# EAGLE library part ASM4242 (library ASM4242_Eagle_R01)
DISCLAIMER: THE DESIGN HASN'T BEEN VERIFIED, JUST FOR YOUR REFERENCE. EVERYTHING IS PROVIDED AS IS, WITHOUT WARRANTY OF ANY KIND, NOT RESPONSIBLE FOR THE QUALITY. If you find any issues with this file, please create an issue in the repo projects.kolabo.dev/
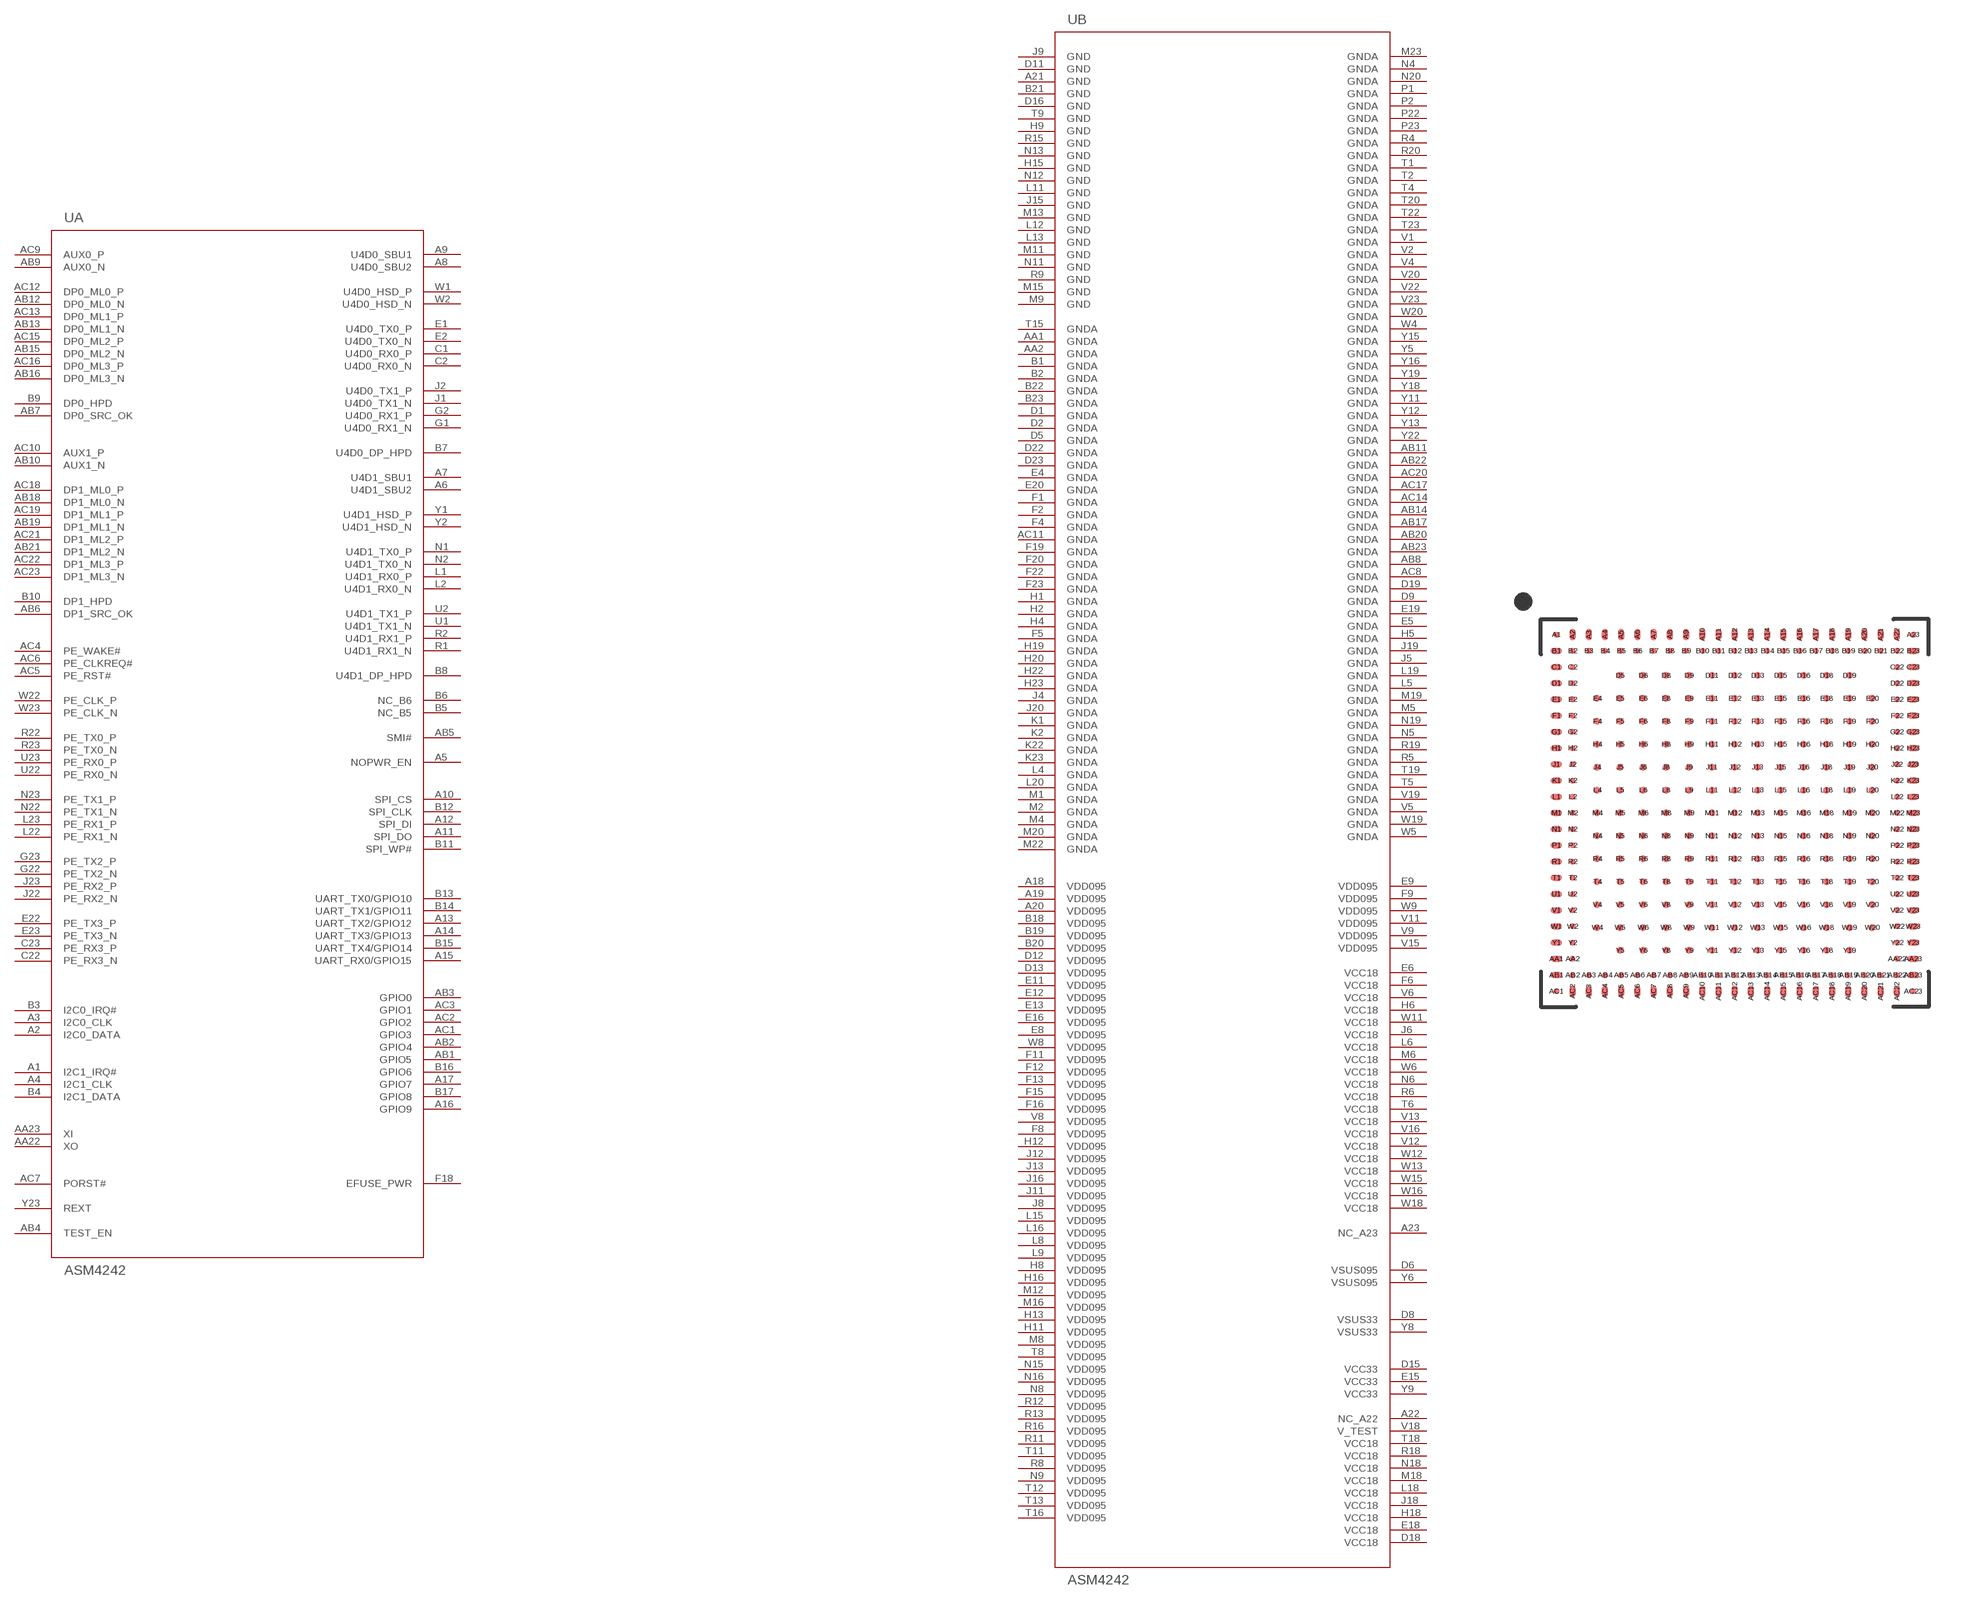
[diagram p0: symbol with the pads of ASM4242; footprint ASM4242]

Designator prefix -; gates A=ASM4242_A B=ASM4242_B

## ASM4242  [ASM4242]
A1  A:I2C1_IRQ#
A2  A:I2C0_DATA
A3  A:I2C0_CLK
A4  A:I2C1_CLK
A5  A:NOPWR_EN
A6  A:U4D1_SBU2
A7  A:U4D1_SBU1
A8  A:U4D0_SBU2
A9  A:U4D0_SBU1
A10  A:SPI_CS
A11  A:SPI_DO
A12  A:SPI_DI
A13  A:UART_TX2/GPIO12
A14  A:UART_TX3/GPIO13
A15  A:UART_RX0/GPIO15
A16  A:GPIO9
A17  A:GPIO7
A18  B:VDD095
A19  B:VDD095
A20  B:VDD095
A21  B:GND
A22  B:NC_A22
A23  B:NC_A23
AA1  B:GNDA
AA2  B:GNDA
AA22  A:XO
AA23  A:XI
AB1  A:GPIO5
AB2  A:GPIO4
AB3  A:GPIO0
AB4  A:TEST_EN
AB5  A:SMI#
AB6  A:DP1_SRC_OK
AB7  A:DP0_SRC_OK
AB8  B:GNDA
AB9  A:AUX0_N
AB10  A:AUX1_N
AB11  B:GNDA
AB12  A:DP0_ML0_N
AB13  A:DP0_ML1_N
AB14  B:GNDA
AB15  A:DP0_ML2_N
AB16  A:DP0_ML3_N
AB17  B:GNDA
AB18  A:DP1_ML0_N
AB19  A:DP1_ML1_N
AB20  B:GNDA
AB21  A:DP1_ML2_N
AB22  B:GNDA
AB23  B:GNDA
AC1  A:GPIO3
AC2  A:GPIO2
AC3  A:GPIO1
AC4  A:PE_WAKE#
AC5  A:PE_RST#
AC6  A:PE_CLKREQ#
AC7  A:PORST#
AC8  B:GNDA
AC9  A:AUX0_P
AC10  A:AUX1_P
AC11  B:GNDA
AC12  A:DP0_ML0_P
AC13  A:DP0_ML1_P
AC14  B:GNDA
AC15  A:DP0_ML2_P
AC16  A:DP0_ML3_P
AC17  B:GNDA
AC18  A:DP1_ML0_P
AC19  A:DP1_ML1_P
AC20  B:GNDA
AC21  A:DP1_ML2_P
AC22  A:DP1_ML3_P
AC23  A:DP1_ML3_N
B1  B:GNDA
B2  B:GNDA
B3  A:I2C0_IRQ#
B4  A:I2C1_DATA
B5  A:NC_B5
B6  A:NC_B6
B7  A:U4D0_DP_HPD
B8  A:U4D1_DP_HPD
B9  A:DP0_HPD
B10  A:DP1_HPD
B11  A:SPI_WP#
B12  A:SPI_CLK
B13  A:UART_TX0/GPIO10
B14  A:UART_TX1/GPIO11
B15  A:UART_TX4/GPIO14
B16  A:GPIO6
B17  A:GPIO8
B18  B:VDD095
B19  B:VDD095
B20  B:VDD095
B21  B:GND
B22  B:GNDA
B23  B:GNDA
C1  A:U4D0_RX0_P
C2  A:U4D0_RX0_N
C22  A:PE_RX3_N
C23  A:PE_RX3_P
D1  B:GNDA
D2  B:GNDA
D5  B:GNDA
D6  B:VSUS095
D8  B:VSUS33
D9  B:GNDA
D11  B:GND
D12  B:VDD095
D13  B:VDD095
D15  B:VCC33
D16  B:GND
D18  B:VCC18
D19  B:GNDA
D22  B:GNDA
D23  B:GNDA
E1  A:U4D0_TX0_P
E2  A:U4D0_TX0_N
E4  B:GNDA
E5  B:GNDA
E6  B:VCC18
E8  B:VDD095
E9  B:VDD095
E11  B:VDD095
E12  B:VDD095
E13  B:VDD095
E15  B:VCC33
E16  B:VDD095
E18  B:VCC18
E19  B:GNDA
E20  B:GNDA
E22  A:PE_TX3_P
E23  A:PE_TX3_N
F1  B:GNDA
F2  B:GNDA
F4  B:GNDA
F5  B:GNDA
F6  B:VCC18
F8  B:VDD095
F9  B:VDD095
F11  B:VDD095
F12  B:VDD095
F13  B:VDD095
F15  B:VDD095
F16  B:VDD095
F18  A:EFUSE_PWR
F19  B:GNDA
F20  B:GNDA
F22  B:GNDA
F23  B:GNDA
G1  A:U4D0_RX1_N
G2  A:U4D0_RX1_P
G22  A:PE_TX2_N
G23  A:PE_TX2_P
H1  B:GNDA
H2  B:GNDA
H4  B:GNDA
H5  B:GNDA
H6  B:VCC18
H8  B:VDD095
H9  B:GND
H11  B:VDD095
H12  B:VDD095
H13  B:VDD095
H15  B:GND
H16  B:VDD095
H18  B:VCC18
H19  B:GNDA
H20  B:GNDA
H22  B:GNDA
H23  B:GNDA
J1  A:U4D0_TX1_N
J2  A:U4D0_TX1_P
J4  B:GNDA
J5  B:GNDA
J6  B:VCC18
J8  B:VDD095
J9  B:GND
J11  B:VDD095
J12  B:VDD095
J13  B:VDD095
J15  B:GND
J16  B:VDD095
J18  B:VCC18
J19  B:GNDA
J20  B:GNDA
J22  A:PE_RX2_N
J23  A:PE_RX2_P
K1  B:GNDA
K2  B:GNDA
K22  B:GNDA
K23  B:GNDA
L1  A:U4D1_RX0_P
L2  A:U4D1_RX0_N
L4  B:GNDA
L5  B:GNDA
L6  B:VCC18
L8  B:VDD095
L9  B:VDD095
L11  B:GND
L12  B:GND
L13  B:GND
L15  B:VDD095
L16  B:VDD095
L18  B:VCC18
L19  B:GNDA
L20  B:GNDA
L22  A:PE_RX1_N
L23  A:PE_RX1_P
M1  B:GNDA
M2  B:GNDA
M4  B:GNDA
M5  B:GNDA
M6  B:VCC18
M8  B:VDD095
M9  B:GND
M11  B:GND
M12  B:VDD095
M13  B:GND
M15  B:GND
M16  B:VDD095
M18  B:VCC18
M19  B:GNDA
M20  B:GNDA
M22  B:GNDA
M23  B:GNDA
N1  A:U4D1_TX0_P
N2  A:U4D1_TX0_N
N4  B:GNDA
N5  B:GNDA
N6  B:VCC18
N8  B:VDD095
N9  B:VDD095
N11  B:GND
N12  B:GND
N13  B:GND
N15  B:VDD095
N16  B:VDD095
N18  B:VCC18
N19  B:GNDA
N20  B:GNDA
N22  A:PE_TX1_N
N23  A:PE_TX1_P
P1  B:GNDA
P2  B:GNDA
P22  B:GNDA
P23  B:GNDA
R1  A:U4D1_RX1_N
R2  A:U4D1_RX1_P
R4  B:GNDA
R5  B:GNDA
R6  B:VCC18
R8  B:VDD095
R9  B:GND
R11  B:VDD095
R12  B:VDD095
R13  B:VDD095
R15  B:GND
R16  B:VDD095
R18  B:VCC18
R19  B:GNDA
R20  B:GNDA
R22  A:PE_TX0_P
R23  A:PE_TX0_N
T1  B:GNDA
T2  B:GNDA
T4  B:GNDA
T5  B:GNDA
T6  B:VCC18
T8  B:VDD095
T9  B:GND
T11  B:VDD095
T12  B:VDD095
T13  B:VDD095
T15  B:GNDA
T16  B:VDD095
T18  B:VCC18
T19  B:GNDA
T20  B:GNDA
T22  B:GNDA
T23  B:GNDA
U1  A:U4D1_TX1_N
U2  A:U4D1_TX1_P
U22  A:PE_RX0_N
U23  A:PE_RX0_P
V1  B:GNDA
V2  B:GNDA
V4  B:GNDA
V5  B:GNDA
V6  B:VCC18
V8  B:VDD095
V9  B:VDD095
V11  B:VDD095
V12  B:VCC18
V13  B:VCC18
V15  B:VDD095
V16  B:VCC18
V18  B:V_TEST
V19  B:GNDA
V20  B:GNDA
V22  B:GNDA
V23  B:GNDA
W1  A:U4D0_HSD_P
W2  A:U4D0_HSD_N
W4  B:GNDA
W5  B:GNDA
W6  B:VCC18
W8  B:VDD095
W9  B:VDD095
W11  B:VCC18
W12  B:VCC18
W13  B:VCC18
W15  B:VCC18
W16  B:VCC18
W18  B:VCC18
W19  B:GNDA
W20  B:GNDA
W22  A:PE_CLK_P
W23  A:PE_CLK_N
Y1  A:U4D1_HSD_P
Y2  A:U4D1_HSD_N
Y5  B:GNDA
Y6  B:VSUS095
Y8  B:VSUS33
Y9  B:VCC33
Y11  B:GNDA
Y12  B:GNDA
Y13  B:GNDA
Y15  B:GNDA
Y16  B:GNDA
Y18  B:GNDA
Y19  B:GNDA
Y22  B:GNDA
Y23  A:REXT

## Footprint ASM4242 (pad centres in mm)
Package Description Package Size: 11.00 x 11.00 x 0.98 mm Package Type: FC-CSP Package Pins: 333 Pins Package Outer BGA Pitch: 460μm Package Inner BGA Pitch: 650μm DISCLAIMER: THE DESIGN HASN'T BEEN VERIFIED, JUST FOR YOUR REFERENCE. EVERYTHING IS PROVIDED AS IS, WITHOUT WARRANTY OF ANY KIND, NOT RESPONSIBLE FOR THE QUALITY. If you find any issues with this file, please create an issue in the repo projects.kolabo.dev/
smd 0.17 x 0.17: A1 -5.06,5.06; A23 5.06,5.06; AA2 -4.6,-4.14; AA22 4.6,-4.14; AB2 -4.6,-4.6; AB3 -4.14,-4.6; AB4 -3.68,-4.6; AB5 -3.22,-4.6; AB6 -2.76,-4.6; AB7 -2.3,-4.6; AB8 -1.84,-4.6; AB9 -1.38,-4.6; AB10 -0.92,-4.6; AB11 -0.46,-4.6; AB12 0,-4.6; AB13 0.46,-4.6; AB14 0.92,-4.6; AB15 1.38,-4.6; AB16 1.84,-4.6; AB17 2.3,-4.6; AB18 2.76,-4.6; AB19 3.22,-4.6; AB20 3.68,-4.6; AB21 4.14,-4.6; AB22 4.6,-4.6; AC1 -5.06,-5.06; AC23 5.06,-5.06; B2 -4.6,4.6; B3 -4.14,4.6; B4 -3.68,4.6; B5 -3.22,4.6; B6 -2.76,4.6; B7 -2.3,4.6; B8 -1.84,4.6; B9 -1.38,4.6; B10 -0.92,4.6; B11 -0.46,4.6; B12 0,4.6; B13 0.46,4.6; B14 0.92,4.6; B15 1.38,4.6; B16 1.84,4.6; B17 2.3,4.6; B18 2.76,4.6; B19 3.22,4.6; B20 3.68,4.6; B21 4.14,4.6; B22 4.6,4.6; C2 -4.6,4.14; C22 4.6,4.14; D2 -4.6,3.68; D22 4.6,3.68; E2 -4.6,3.22; E22 4.6,3.22; F2 -4.6,2.76; F22 4.6,2.76; G2 -4.6,2.3; G22 4.6,2.3; H2 -4.6,1.84; H22 4.6,1.84; J2 -4.6,1.38; J22 4.6,1.38; K2 -4.6,0.92; K22 4.6,0.92; L2 -4.6,0.46; L22 4.6,0.46; M2 -4.6,0; M22 4.6,0; N2 -4.6,-0.46; N22 4.6,-0.46; P2 -4.6,-0.92; P22 4.6,-0.92; R2 -4.6,-1.38; R22 4.6,-1.38; T2 -4.6,-1.84; T22 4.6,-1.84; U2 -4.6,-2.3; U22 4.6,-2.3; V2 -4.6,-2.76; V22 4.6,-2.76; W2 -4.6,-3.22; W22 4.6,-3.22; Y2 -4.6,-3.68; Y22 4.6,-3.68
smd 0.17 x 0.33: A2 -4.6,5.06; A3 -4.14,5.06; A4 -3.68,5.06; A5 -3.22,5.06; A6 -2.76,5.06; A7 -2.3,5.06; A8 -1.84,5.06; A9 -1.38,5.06; A10 -0.92,5.06; A11 -0.46,5.06; A12 0,5.06; A13 0.46,5.06; A14 0.92,5.06; A15 1.38,5.06; A16 1.84,5.06; A17 2.3,5.06; A18 2.76,5.06; A19 3.22,5.06; A20 3.68,5.06; A21 4.14,5.06; A22 4.6,5.06; AC2 -4.6,-5.06; AC3 -4.14,-5.06; AC4 -3.68,-5.06; AC5 -3.22,-5.06; AC6 -2.76,-5.06; AC7 -2.3,-5.06; AC8 -1.84,-5.06; AC9 -1.38,-5.06; AC10 -0.92,-5.06; AC11 -0.46,-5.06; AC12 0,-5.06; AC13 0.46,-5.06; AC14 0.92,-5.06; AC15 1.38,-5.06; AC16 1.84,-5.06; AC17 2.3,-5.06; AC18 2.76,-5.06; AC19 3.22,-5.06; AC20 3.68,-5.06; AC21 4.14,-5.06; AC22 4.6,-5.06
smd 0.33 x 0.17: AA1 -5.06,-4.14; AA23 5.06,-4.14; AB1 -5.06,-4.6; AB23 5.06,-4.6; B1 -5.06,4.6; B23 5.06,4.6; C1 -5.06,4.14; C23 5.06,4.14; D1 -5.06,3.68; D23 5.06,3.68; E1 -5.06,3.22; E23 5.06,3.22; F1 -5.06,2.76; F23 5.06,2.76; G1 -5.06,2.3; G23 5.06,2.3; H1 -5.06,1.84; H23 5.06,1.84; J1 -5.06,1.38; J23 5.06,1.38; K1 -5.06,0.92; K23 5.06,0.92; L1 -5.06,0.46; L23 5.06,0.46; M1 -5.06,0; M23 5.06,0; N1 -5.06,-0.46; N23 5.06,-0.46; P1 -5.06,-0.92; P23 5.06,-0.92; R1 -5.06,-1.38; R23 5.06,-1.38; T1 -5.06,-1.84; T23 5.06,-1.84; U1 -5.06,-2.3; U23 5.06,-2.3; V1 -5.06,-2.76; V23 5.06,-2.76; W1 -5.06,-3.22; W23 5.06,-3.22; Y1 -5.06,-3.68; Y23 5.06,-3.68
smd 0.2 x 0.2: D5 -3.25,3.9; D6 -2.6,3.9; D8 -1.95,3.9; D9 -1.3,3.9; D11 -0.65,3.9; D12 0,3.9; D13 0.65,3.9; D15 1.3,3.9; D16 1.95,3.9; D18 2.6,3.9; D19 3.25,3.9; E4 -3.9,3.25; E5 -3.25,3.25; E6 -2.6,3.25; E8 -1.95,3.25; E9 -1.3,3.25; E11 -0.65,3.25; E12 0,3.25; E13 0.65,3.25; E15 1.3,3.25; E16 1.95,3.25; E18 2.6,3.25; E19 3.25,3.25; E20 3.9,3.25; F4 -3.9,2.6; F5 -3.25,2.6; F6 -2.6,2.6; F8 -1.95,2.6; F9 -1.3,2.6; F11 -0.65,2.6; F12 0,2.6; F13 0.65,2.6; F15 1.3,2.6; F16 1.95,2.6; F18 2.6,2.6; F19 3.25,2.6; F20 3.9,2.6; H4 -3.9,1.95; H5 -3.25,1.95; H6 -2.6,1.95; H8 -1.95,1.95; H9 -1.3,1.95; H11 -0.65,1.95; H12 0,1.95; H13 0.65,1.95; H15 1.3,1.95; H16 1.95,1.95; H18 2.6,1.95; H19 3.25,1.95; H20 3.9,1.95; J4 -3.9,1.3; J5 -3.25,1.3; J6 -2.6,1.3; J8 -1.95,1.3; J9 -1.3,1.3; J11 -0.65,1.3; J12 0,1.3; J13 0.65,1.3; J15 1.3,1.3; J16 1.95,1.3; J18 2.6,1.3; J19 3.25,1.3; J20 3.9,1.3; L4 -3.9,0.65; L5 -3.25,0.65; L6 -2.6,0.65; L8 -1.95,0.65; L9 -1.3,0.65; L11 -0.65,0.65; L12 0,0.65; L13 0.65,0.65; L15 1.3,0.65; L16 1.95,0.65; L18 2.6,0.65; L19 3.25,0.65; L20 3.9,0.65; M4 -3.9,0; M5 -3.25,0; M6 -2.6,0; M8 -1.95,0; M9 -1.3,0; M11 -0.65,0; M12 0,0; M13 0.65,0; M15 1.3,0; M16 1.95,0; M18 2.6,0; M19 3.25,0; M20 3.9,0; N4 -3.9,-0.65; N5 -3.25,-0.65; N6 -2.6,-0.65; N8 -1.95,-0.65; N9 -1.3,-0.65; N11 -0.65,-0.65; N12 0,-0.65; N13 0.65,-0.65; N15 1.3,-0.65; N16 1.95,-0.65; N18 2.6,-0.65; N19 3.25,-0.65; N20 3.9,-0.65; R4 -3.9,-1.3; R5 -3.25,-1.3; R6 -2.6,-1.3; R8 -1.95,-1.3; R9 -1.3,-1.3; R11 -0.65,-1.3; R12 0,-1.3; R13 0.65,-1.3; R15 1.3,-1.3; R16 1.95,-1.3; R18 2.6,-1.3; R19 3.25,-1.3; R20 3.9,-1.3; T4 -3.9,-1.95; T5 -3.25,-1.95; T6 -2.6,-1.95; T8 -1.95,-1.95; T9 -1.3,-1.95; T11 -0.65,-1.95; T12 0,-1.95; T13 0.65,-1.95; T15 1.3,-1.95; T16 1.95,-1.95; T18 2.6,-1.95; T19 3.25,-1.95; T20 3.9,-1.95; V4 -3.9,-2.6; V5 -3.25,-2.6; V6 -2.6,-2.6; V8 -1.95,-2.6; V9 -1.3,-2.6; V11 -0.65,-2.6; V12 0,-2.6; V13 0.65,-2.6; V15 1.3,-2.6; V16 1.95,-2.6; V18 2.6,-2.6; V19 3.25,-2.6; V20 3.9,-2.6; W4 -3.9,-3.25; W5 -3.25,-3.25; W6 -2.6,-3.25; W8 -1.95,-3.25; W9 -1.3,-3.25; W11 -0.65,-3.25; W12 0,-3.25; W13 0.65,-3.25; W15 1.3,-3.25; W16 1.95,-3.25; W18 2.6,-3.25; W19 3.25,-3.25; W20 3.9,-3.25; Y5 -3.25,-3.9; Y6 -2.6,-3.9; Y8 -1.95,-3.9; Y9 -1.3,-3.9; Y11 -0.65,-3.9; Y12 0,-3.9; Y13 0.65,-3.9; Y15 1.3,-3.9; Y16 1.95,-3.9; Y18 2.6,-3.9; Y19 3.25,-3.9